# EAGLE library part MOLEX_SL_40 (library molex-sl-connectors_jw)
Molex SL-Series PCB Header, 40-Pos, 0.1" (2.54mm) Centers
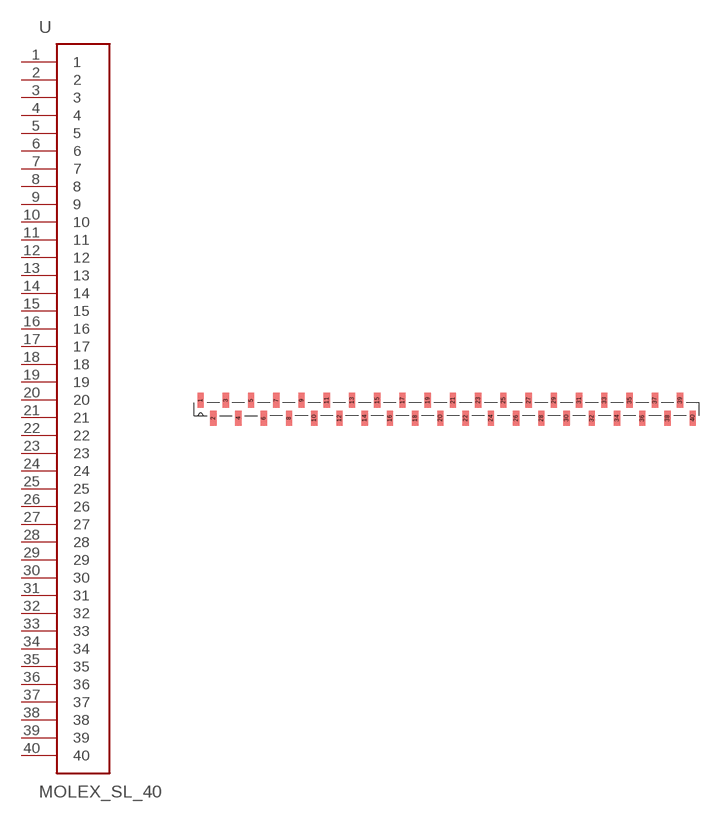
[diagram p34: symbol with the pads of SL_87898_40; footprint SL_87898_40]

Designator prefix -

## MOLEX_SL_40-87898  [SL_87898_40]
1  1
2  2
3  3
4  4
5  5
6  6
7  7
8  8
9  9
10  10
11  11
12  12
13  13
14  14
15  15
16  16
17  17
18  18
19  19
20  20
21  21
22  22
23  23
24  24
25  25
26  26
27  27
28  28
29  29
30  30
31  31
32  32
33  33
34  34
35  35
36  36
37  37
38  38
39  39
40  40

## Footprint SL_87898_40 (pad centres in mm)
SMD Vertical Header (no latch or pegs) Package also includes Pick-N-Place Cap Tube packaging w/o Pick-N-Place Cap: 87898-4021 87898-4022 87898-4024 87898-4025 87898-4026 Tube packaging w/ Pick-N-Place Cap: 87898-4031 87898-4032 87898-4034 87898-4035 87898-4036
smd 1.27 x 2.946: 1 -49.53,1.803; 2 -46.99,-1.803; 3 -44.45,1.803; 4 -41.91,-1.803; 5 -39.37,1.803; 6 -36.83,-1.803; 7 -34.29,1.803; 8 -31.75,-1.803; 9 -29.21,1.803; 10 -26.67,-1.803; 11 -24.13,1.803; 12 -21.59,-1.803; 13 -19.05,1.803; 14 -16.51,-1.803; 15 -13.97,1.803; 16 -11.43,-1.803; 17 -8.89,1.803; 18 -6.35,-1.803; 19 -3.81,1.803; 20 -1.27,-1.803; 21 1.27,1.803; 22 3.81,-1.803; 23 6.35,1.803; 24 8.89,-1.803; 25 11.43,1.803; 26 13.97,-1.803; 27 16.51,1.803; 28 19.05,-1.803; 29 21.59,1.803; 30 24.13,-1.803; 31 26.67,1.803; 32 29.21,-1.803; 33 31.75,1.803; 34 34.29,-1.803; 35 36.83,1.803; 36 39.37,-1.803; 37 41.91,1.803; 38 44.45,-1.803; 39 46.99,1.803; 40 49.53,-1.803